# EAGLE library part PTN78020 (library RalimTek)
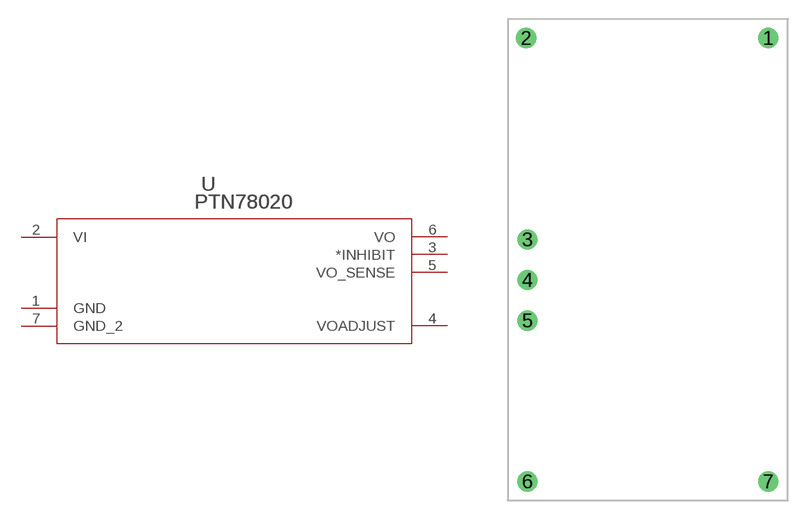
[diagram p13: symbol with the pads of EUK7; footprint EUK7]

Designator prefix -

## PTN78020  [EUK7]
1  GND  pas
2  VI  pas
3  *INHIBIT  pas
4  VOADJUST  pas
5  VO_SENSE  pas
6  VO  pas
7  GND_2  pas

## Footprint EUK7 (pad centres in mm)
drill 1.067: 1 9.5,17.5; 2 -9.6,17.5; 3 -9.5,1.6; 4 -9.5,-1.6; 5 -9.5,-4.8; 6 -9.5,-17.5; 7 9.5,-17.5